# Altium footprint library PCB - CONNECTOR - SAMTEC IPL1-106-01-L-D-RA-K.PCBLIB: 1 footprints
Each footprint in its own frame and in the unit in brackets; x right, y up, seen from the top. Pads: shape width x height; smd on the part's side, far side on the other; paste and mask are expansions set on the pad; w line width, h text height; cw(c..) or ccw(c..) is an arc to the next point about the centre after c.
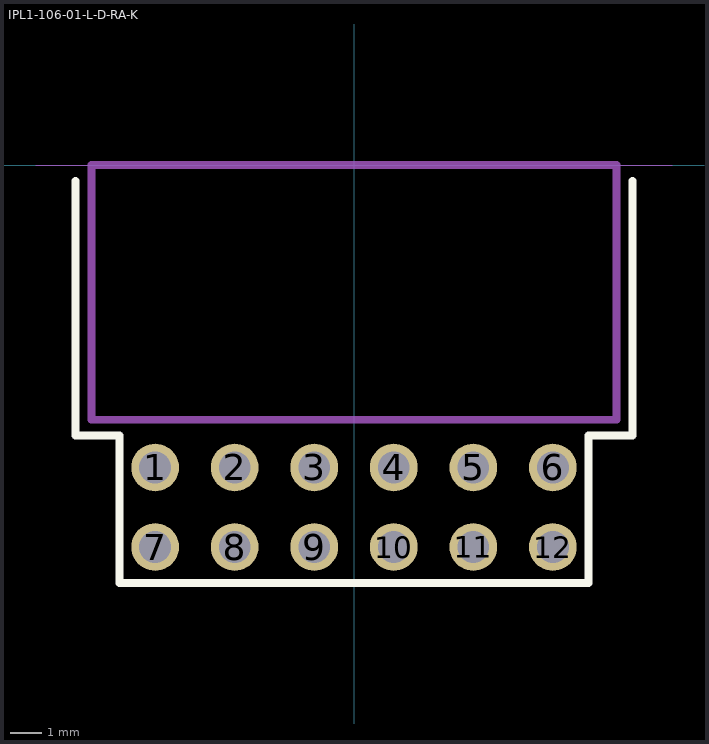
[diagram p0: the footprint, top view; thin cyan lines are the x and y axes]

## IPL1-106-01-L-D-RA-K [mil]
pads (12):
  round 60 hole 40 mask+3: 1(-250,-380) 2(-150,-380) 3(-50,-380) 4(50,-380) 5(150,-380) 6(250,-380) 7(-250,-480) 8(-150,-480) 9(-50,-480) 10(50,-480) 11(150,-480) 12(250,-480)
Top Overlay:
  lines w10: -350,-20 -350,-340 -295,-340 -295,-525 295,-525 295,-340 350,-340 350,-20
M5 Assembly Top:
  lines w10: -330,-320 330,-320 330,0 -330,0 -330,-320
  text ".Designator" at -74.8,-251.97 h60
Mechanical 16:
  lines w0.1: -400,0 400,0
3D body "IPL1-106-01-L-D-RA-K.stp": height 310, standoff -85, extent -329.99,-492.49 330.01,0.01